# EAGLE library part ISP-SPI (library U-AVR)
AVR ISP thru SPI In-System Programming uses the target Atmel AVR’s internal SPI (Serial Peripheral Interface) to download code into the flash and EEPROM memories. It is not a debugging interface. When designing an application PCB which includes an AVR with the SPI interface, this pinout should be used. Sparkfun SKU: BOB-08508
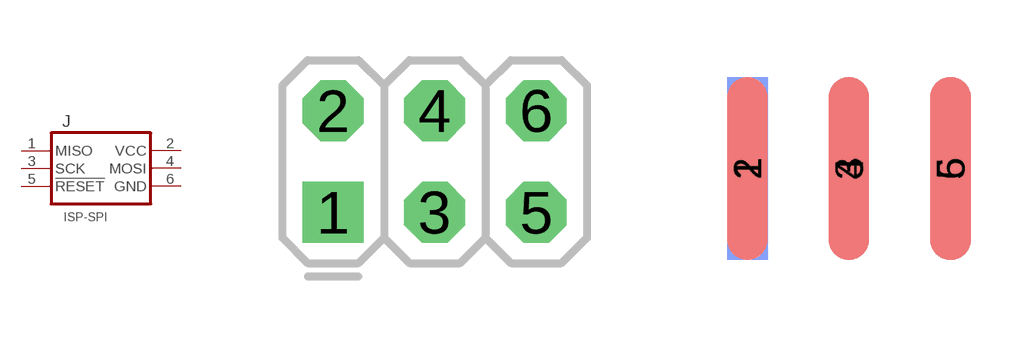
[diagram p3: symbol with the pads of ISP; footprints ISP, ISP-EDG]

Designator prefix J

## ISP-SPIPTH  [ISP]
1  MISO
2  VCC
3  SCK
4  MOSI
5  !RESET
6  GND

## ISP-SPIEDG  [ISP-EDG]
Pads as for ISP

## Footprint ISP (pad centres in mm)
drill 1.016 square: 1 0,0
drill 1.016 octagon: 2 0,2.54; 3 2.54,0; 4 2.54,2.54; 5 5.08,0; 6 5.08,2.54

## Footprint ISP-EDG (pad centres in mm)
Place at edge of board, used to solder a connector on side of board e.g. PPPC032LFBN [SULLINS,PPPC032LFBN-RC] CONN HEADER FEMALE 3X2POS ,1IN
smd 1.016 x 4.572 bottom: 1 -2.54,2.286; 3 0,2.286; 5 2.54,2.286
smd 1.016 x 4.572: 2 -2.54,2.286; 4 0,2.286; 6 2.54,2.286